# Altium footprint library BAV170MYL.PcbLib: 1 footprints
Each footprint in its own frame and in the unit in brackets; x right, y up, seen from the top. Pads: shape width x height; smd on the part's side, far side on the other; paste and mask are expansions set on the pad; w line width, h text height; cw(c..) or ccw(c..) is an arc to the next point about the centre after c.
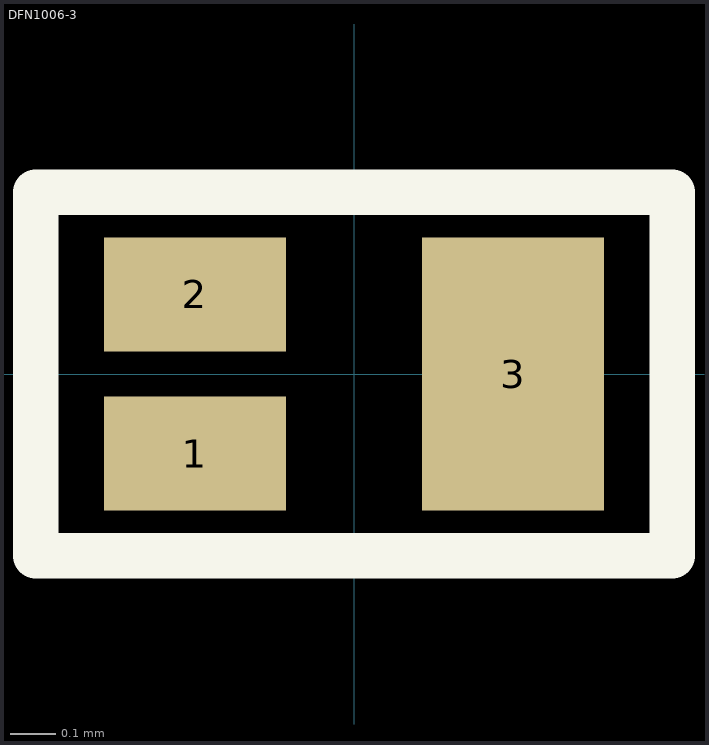
[diagram p0: the footprint, top view; thin cyan lines are the x and y axes]

## DFN1006-3 [mm] "SOT883"
pads (3):
  rect 0.4x0.25 smd: 1(-0.35,-0.175) 2(-0.35,0.175)
  rect 0.4x0.6 smd: 3(0.35,0)
Top Overlay:
  lines w0.1: -0.7,-0.4 -0.7,0.4 0.7,0.4 0.7,-0.4 -0.7,-0.4
3D body "BAV170MYL.stp": height 0.48, standoff 0, extent -0.5,-0.3 0.5,0.3